# Altium schematic symbol library INFINITY.Capacitor.SchLib: 6 symbols
Pins are listed as number, name and electrical type; pins without a type are passive.

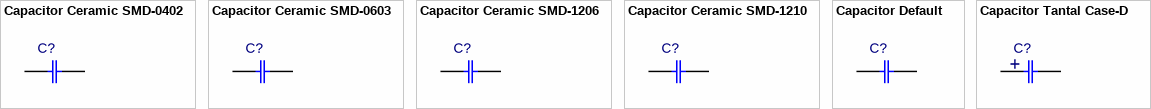
[diagram p0: symbols Capacitor Ceramic SMD-0402 to Capacitor Tantal Case-D]

## Capacitor Ceramic SMD-0402
designator C?
pins: 1, 2

## Capacitor Ceramic SMD-0603
designator C?
pins: 1, 2

## Capacitor Ceramic SMD-1206
designator C?
pins: 1, 2

## Capacitor Ceramic SMD-1210
designator C?
pins: 1, 2

## Capacitor Default
designator C?
pins: 1, 2

## Capacitor Tantal Case-D
designator C?
pins: 1, 2
text: +